# Altium schematic symbol library Dronesch.SchLib: 28 symbols
Pins are listed as number, name and electrical type; pins without a type are passive.

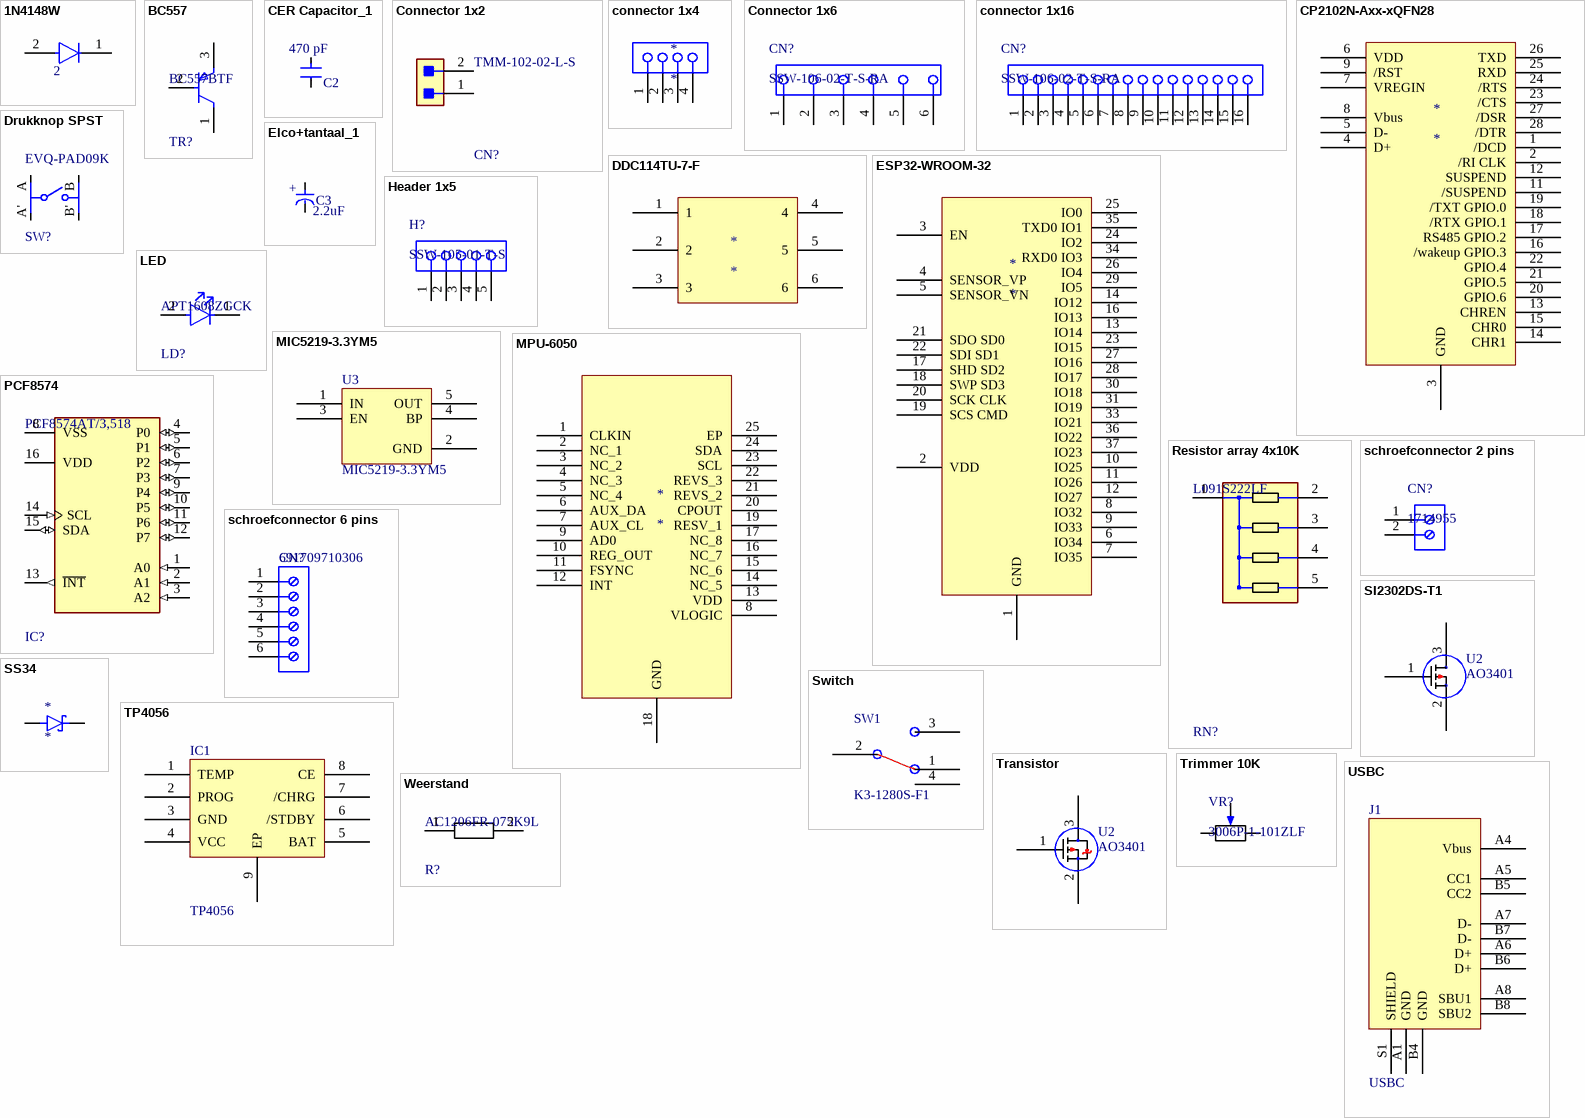
[diagram p0: symbols 1N4148W to Weerstand]

## 1N4148W
designator 2, comment APT1608ZGCK  (value not drawn)
Diode; Forward Voltage: 3.3V; Lens Transparency: Clear; Dominant Wavelength: 525nm; Forward Current: 20mA; Lens Color: Colorless; Viewing Angle: 120°; Luminous Intensity: 350mcd; Illumination Color: Green; Color: Green; Max Operating Temperature: 85°C; Case/Package: 0603; Mount: Surface Mount; Min Operating Temperature: -40°C; Case Code (Metric): 1608; Test Current: 20mA; Packaging: Tape and Reel; Width: 0.8mm; Package Quantity: 1; Height: 0.75mm; Length: 1.6mm; Lead Free: Lead Free; Case Code (Imperial): 0603
footprint SOD3715X135N
pins: 1, 2

## BC557
designator TR?, comment BC557BTF
BC557BTF Small Signal Bipolar Transistor, 0.1A I(C), 45V V(BR)CEO, 1-Element, PNP, Silicon, TO-92; Manufacturer Lifecycle Status: ACTIVE; NexarPartId: 84408945; Max Power Dissipation: 500mW; Frequency: 150MHz; hFE Min: 110; Number of Elements: 1; Current Rating: -100mA; Collector Emitter Saturation Voltage: -250mV; Max Collector Current: 100mA; Emitter Base Voltage (VEBO): -5V; Voltage Rating (DC): -45V; Element Configuration: Single; Max Frequency: 10MHz; Collector Base Voltage (VCBO): -50V; Collector Emitter Voltage (VCEO): 45V; Contact Plating: Tin; Min Operating Temperature: -65°C; RoHS: Compliant; Max Operating Temperature: 150°C; Weight: 240mg; Power Dissipation: 500mW; Lifecycle Status: Production; Case/Package: TO-92; Collector Emitter Breakdown Voltage: 45V; Length: 5.2mm; Schedule B: 8541210080, 8541210080|8541210080|8541210080|8541210080|8541210080; Lead Free: Lead Free; Polarity: PNP; REACH SVHC: No SVHC; Mount: Through Hole; Max Breakdown Voltage: 45V; Transition Frequency: 150MHz; Height: 5.33mm; Number of Pins: 3; Gain Bandwidth Product: 150MHz; Width: 4.19mm
pins: 1 C, 2 B, 3 E

## CER Capacitor_1
designator C2, comment 470 pF
Voltage Rating (DC): 35V; Tolerance: 20%; Capacitance: 10uF; Dielectric: X6S; Width: 0.049inch; Thickness: 0.057inch; Voltage Rating: 35V; Min Operating Temperature: -55°C; Case Code (Imperial): 0805; Mount: Surface Mount; Packaging: Tape and Reel; Case/Package: 0805; Max Operating Temperature: 105°C; Length: 0.079inch; Case Code (Metric): 2012
footprint res0805ph (Chip Resistor, 2-Leads, Body 2.00x1.25mm, IPC Medium Density)
pins: 1, 2

## Connector 1x2
designator CN?, comment TMM-102-02-L-S
CONN HEADER VERT 2POS 2MM; Max Voltage Rating (AC): 500V; Number of Contacts: 2; Max Current Rating: 3.9A; Gender: Male; Number of Rows: 1; REACH SVHC: No SVHC; Contact Material: Bronze; Length: 4mm; Depth: 1.97mm; Pitch: 2mm; Radiation Hardening: No; Contact Plating: Gold; Min Operating Temperature: -55°C; RoHS Compliant: Yes; Packaging: Bulk; Orientation: Straight; Housing Material: Polymer; Housing Color: Black; Max Operating Temperature: 125°C; Termination: Solder; Lead Free: Lead Free
footprint JST_B2B-XH-A_(LF)(SN)
pins: 1, 2

## connector 1x4
designator *
pins: 1, 2, 3, 4

## Connector 1x6
designator CN?, comment SSW-106-02-T-S-RA
SQ Post Socket, Through-hole, Right Angle, -55 to 105 degC, 2.54mm Pitch, 6-Pin, Female, RoHS; Manufacturer: Samtec; DatasheetVersion: F-214; PackageReference: SSW-106-02-X-S-RA; ComponentLink1URL: http://www.samtec.com; Temperature Range: -55 to 105 degC; Orientation: Right Angle; ComponentLink2Description: Datasheet; PartNumber: SSW-106-02-T-S-RA; PackageVersion: CA, 6/1987; Pitch: 2.54 mm; Mounting Technology: Through-hole; PackageDescription: Assembly, Socket Strip .016 X .031 Tail; ComponentLink2URL: http://www.samtec.com/documents/webfiles/pdf/SSW_TH.PDF; RoHS: True; ComponentLink3URL: http://www.samtec.com/documents/webfiles/cpdf/SSW-1XX-XX-XXX-X-XX-XXX-XX-MKT.pdf; ComponentLink1Description: Manufacturer URL; ComponentLink3Description: Package Specification
footprint 61300611121
pins: 1, 2, 3, 4, 5, 6

## connector 1x16
designator CN?, comment SSW-106-02-T-S-RA
SQ Post Socket, Through-hole, Right Angle, -55 to 105 degC, 2.54mm Pitch, 6-Pin, Female, RoHS; Manufacturer: Samtec; DatasheetVersion: F-214; PackageReference: SSW-106-02-X-S-RA; ComponentLink1URL: http://www.samtec.com; Temperature Range: -55 to 105 degC; Orientation: Right Angle; ComponentLink2Description: Datasheet; PartNumber: SSW-106-02-T-S-RA; PackageVersion: CA, 6/1987; Pitch: 2.54 mm; Mounting Technology: Through-hole; PackageDescription: Assembly, Socket Strip .016 X .031 Tail; ComponentLink2URL: http://www.samtec.com/documents/webfiles/pdf/SSW_TH.PDF; RoHS: True; ComponentLink3URL: http://www.samtec.com/documents/webfiles/cpdf/SSW-1XX-XX-XXX-X-XX-XXX-XX-MKT.pdf; ComponentLink1Description: Manufacturer URL; ComponentLink3Description: Package Specification
pins: 1, 2, 3, 4, 5, 6, 7, 8, 9, 10, 11, 12, 13, 14, 15, 16

## CP2102N-Axx-xQFN28
designator *
footprint QFN50P500X500X80-29N
pins: 1 /DCD, 2 /RI CLK, 3 GND, 4 D+, 5 D-, 6 VDD, 7 VREGIN, 8 Vbus, 9 /RST, 11 /SUSPEND, 12 SUSPEND, 13 CHREN, 14 CHR1, 15 CHR0, 16 /wakeup GPIO.3, 17 RS485 GPIO.2, 18 /RTX GPIO.1, 19 /TXT GPIO.0, 20 GPIO.6, 21 GPIO.5, 22 GPIO.4, 23 /CTS, 24 /RTS, 25 RXD, 26 TXD, 27 /DSR, 28 /DTR

## DDC114TU-7-F
designator *
footprint SOT65P210X110-6N
pins: 1, 2, 3, 4, 5, 6

## Drukknop SPST
designator SW?, comment EVQ-PAD09K
EVQ-PAD09K Switch Tactile N.O. SPST Round Button PC Pins 0.02A 15VDC 1.3N Thru-Hole Bulk; NexarPartId: 40031361; Life (Cycles): 100kcycles; Actuator Length: 6.1mm; Switch Function: Off-Mom; Illumination Type: Illuminated, Non-Illuminated; Number of Positions: 2; Voltage Rating (DC): 15V; Max Current Rating: 20mA; Contact Resistance: 50mΩ; Switch Travel: 250µm; Min Operating Temperature: -20°C; Packaging: Bulk; Orientation: Straight; Mechanical Life: 100kcycles; Radiation Hardening: No; RoHS: Compliant; Mount: Through Hole; Throw Configuration: SPST; Height: 9.5mm; Depth: 6.5mm; Contact Plating: Silver; Lead Free: Lead Free; Length: 6mm; Electrical Life: 100kcycles; Color: Black; Max Voltage Rating (DC): 15V; Max Operating Temperature: 70°C; Termination: PC Pin; Operating Force: 1.3N; Width: 6mm; Contact Current Rating: 20mA; REACH SVHC: Unknown; Current Rating: 20mA
pins: A, A', B, B'

## Elco+tantaal_1
designator C3, comment 2.2uF
47uF 6.3V  ±20% 1.1Ω 2917  SMD Tantalum Capacitor; ESR (Equivalent Series Resistance): 1.1R; Dissipation Factor: 6%; Polarity: Polar; Voltage Rating: 6.3V; Width: 0.169inch; Tolerance: 20%; Series: TAJ; Case/Package: 2917; Max Operating Temperature: 125°C; Depth: 4.3mm; Voltage Rating (DC): 6.3V; Package Quantity: 500; Lead Free: Lead Free; Mount: Surface Mount; Length: 0.287inch; Min Operating Temperature: -55°C; Features: General Purpose; Packaging: Tape and Reel; Capacitance: 47uF; Height - Seated (Max): 0.122inch; RoHS Compliant: Yes
footprint res0805ph (Chip Resistor, 2-Leads, Body 2.00x1.25mm, IPC Medium Density)
pins: 1 C, 2 A
text: +

## ESP32-WROOM-32
designator *
footprint ESP32-WROOM-32D
pins: 1 GND, 2 VDD, 3 EN, 4 SENSOR_VP, 5 SENSOR_VN, 6 IO34, 7 IO35, 8 IO32, 9 IO33, 10 IO25, 11 IO26, 12 IO27, 13 IO14, 14 IO12, 16 IO13, 17 SHD SD2, 18 SWP SD3, 19 SCS CMD, 20 SCK CLK, 21 SDO SD0, 22 SDI SD1, 23 IO15, 24 IO2, 25 IO0, 26 IO4, 27 IO16, 28 IO17, 29 IO5, 30 IO18, 31 IO19, 33 IO21, 34 RXD0 IO3, 35 TXD0 IO1, 36 IO22, 37 IO23

## Header 1x5
designator H?, comment SSW-105-01-T-S
SQ Post Socket, Through-hole, Vertical, -55 to 105 degC, 2.54mm Pitch, 5-Pin, Female, RoHS; Manufacturer: Samtec; Pitch: 2.54 mm; Orientation: Vertical; ComponentLink1Description: Manufacturer URL; ComponentLink1URL: http://www.samtec.com; RoHS: True; PackageDescription: Assembly, Socket Strip .016 X .031 Tail; PackageReference: SSW-105-01-X-S; ComponentLink3URL: http://www.samtec.com/documents/webfiles/cpdf/SSW-1XX-XX-XXX-X-XX-XXX-XX-MKT.pdf; PartNumber: SSW-105-01-T-S; Temperature Range: -55 to 105 degC; Mounting Technology: Through-hole; PackageVersion: CA, 6/1987; ComponentLink2URL: http://www.samtec.com/documents/webfiles/pdf/SSW_TH.PDF; DatasheetVersion: F-214; ComponentLink2Description: Datasheet; ComponentLink3Description: Package Specification
pins: 1, 2, 3, 4, 5

## LED
designator LD?, comment APT1608ZGCK
LED GREEN CLEAR CHIP SMD; Forward Voltage: 3.3V; Dominant Wavelength: 525nm; Forward Current: 20mA; Lens Color: Colorless; Viewing Angle: 120°; Luminous Intensity: 350mcd; Lens Transparency: Clear; Color: Green; Max Operating Temperature: 85°C; Case/Package: 0603; Mount: Surface Mount; Min Operating Temperature: -40°C; Case Code (Metric): 1608; Test Current: 20mA; Packaging: Tape and Reel; Width: 0.8mm; Package Quantity: 1; Height: 0.75mm; Length: 1.6mm; Illumination Color: Green; Lead Free: Lead Free; Case Code (Imperial): 0603
footprint LED_APT1608QBC_D
pins: 1 C, 2 A

## MIC5219-3.3YM5
designator U3
footprint FP-SOT23-5LD-PL-1-IPC_C
pins: 1 IN, 2 GND, 3 EN, 4 BP, 5 OUT

## MPU-6050
designator *
footprint IS-QFN-24_V (QFN, 24-Leads, Body 4x4mm, Pitch 0.5mm, Thermal Pad 2.7x2.6mm)
pins: 1 CLKIN, 2 NC_1, 3 NC_2, 4 NC_3, 5 NC_4, 6 AUX_DA, 7 AUX_CL, 8 VLOGIC, 9 AD0, 10 REG_OUT, 11 FSYNC, 12 INT, 13 VDD, 14 NC_5, 15 NC_6, 16 NC_7, 17 NC_8, 18 GND, 19 RESV_1, 20 CPOUT, 21 REVS_2, 22 REVS_3, 23 SCL, 24 SDA, 25 EP

## PCF8574
designator IC?, comment PCF8574AT/3,518
IC I/O EXPANDER I2C 8B 16SOIC; Manufacturer: NXP Semiconductors; Interface: I2C,SMBus; Frequency: 100kHz; Nominal Supply Current: 40uA; Max Supply Voltage: 6V; Number Of I/Os: 8; Max Junction Temp: +125°C; Min Supply Voltage: 2.5V; Standoff Height: 0.1mm; RoHS: TRUE; Category: IC; Temperature: -40°C to +85°C; Device Class L3: I/O Expanders; ComponentLink2Description: Datasheet; ComponentLink2URL: https://www.nxp.com/docs/en/data-sheet/PCF8574_PCF8574A.pdf; Digikey Description: IC I/O EXPANDER I2C 8B 16SOIC; Ipc Land Pattern Name: SOIC127P1032X265-16; Mouser Description: PCF8574 Series 2.5 to 6V Remote 8-bit I/O Expander for I2C-bus -SOIC-16; Footprint Url: https://www.nxp.com/docs/en/package-information/SOT162-1.pdf; Lead Free: Yes; Device Class L2: Interface ICs; Ambient Temperature Range Low: -40°C; Temperature Range High: +85°C; Automotive: No; Manufacturer Part Number: PCF8574AT/3,518; Ambient Temperature Range High: +85°C; Height: 2.65mm; Package: SOT162-1; Temperature Range Low: -40°C; Octopart: https://octopart.com/pcf8574at%2F3%2C518-nxp+semiconductors-11541925; Device Class L1: Integrated Circuits (ICs)
pins: 1 A0 (in), 2 A1 (in), 3 A2 (in), 4 P0 (io), 5 P1 (io), 6 P2 (io), 7 P3 (io), 8 VSS (power), 9 P4 (io), 10 P5 (io), 11 P6 (io), 12 P7 (io), 13 ~{INT} (out), 14 SCL (in), 15 SDA (io), 16 VDD (power)

## Resistor array 4x10K
designator RN?, comment L091S222LF
L091S222LF L09 Series 2.2 kOhm 8 Leads Bussed 2% Thick Film Low Profile Resistor Network; NexarPartId: 41902791; Temperature Coefficient: 100ppm/°C; Resistance: 2.2kΩ; Voltage Rating: 100V; Number of Resistors: 8; Power Rating: 125mW; Number of Elements: 4; Min Operating Temperature: -55°C; Length: 22.86mm; Lead Free: Lead Free; Schedule B: 8533210075, 8533210075|8533210075|8533210075|8533210075|8533210075; RoHS: Compliant; Packaging: Bulk; Military Standard: Not; Radiation Hardening: No; Max Operating Temperature: 125°C; Number of Pins: 9; Circuit Type: Bussed; Tolerance: 2%; Height: 5.08mm; Composition: Thick Film; Depth: 2.5mm; Termination: DIP, Pin; Working Voltage: 100V; Terminal Pitch: 2.54mm; Number of Terminals: 9; Case/Package: SIP
pins: 1, 2, 3, 4, 5

## schroefconnector 2 pins
designator CN?, comment 1714955
PC Terminal Block, Pitch 6.35 mm, 1 x 2 Position, Height 21.5 mm, Tail Lenght 5.1 mm, RoHS, Bulk; Manufacturer: Phoenix Contact; Package Description: PC Terminal Block, Pitch 6.35 mm, 1 x 2 Position, Height 21.5 mm, Tail Lenght 5.1 mm; Datasheet URL: http://media.digikey.com/pdf/Data%20Sheets/Phoenix%20Contact%20PDFs/1714955.pdf; Package Reference: 1714955; Manufacturer URL: http://www.phoenixcontact.com/; Datasheet Version: 02/2010; Mounting Technology: ThroughHole
pins: 1, 2

## schroefconnector 6 pins
designator CN?, comment 691709710306
NexarPartId: 34171773; Wire/Cable Gauge: 30AWG; Pitch: 5mm; Wire Gauge (Min): 14AWG; Plating: Steel; Current: 6A; Number of Levels: 1; Voltage Rating: 300V; Number of Contacts: 6; Connector Type: Screw; Flammability Rating: UL94 V-0; Housing Material: Nylon; REACH SVHC: Unknown; Lead Pitch: 5mm; Contact Plating: Tin; Mount: Surface Mount; Height: 10.2mm; Number of Rows: 1; Min Operating Temperature: -40°C; RoHS: Compliant; Color: Black; Contact Material: Nickel; Wire Gauge (Max): 30AWG; Number of Pins: 6; Length: 30mm; Number of Positions: 6; Packaging: Tape & Reel (TR); Number of Positions Per Level: 6; Max Operating Temperature: 130°C; Termination: Screw; Current Rating: 6A; Voltage: 300V
pins: 1, 2, 3, 4, 5, 6

## SI2302DS-T1
designator U2, comment AO3401
footprint NXP-SOT23_N (SOT23, 3-Leads, Body 3x1.4mm, Pitch 0.95mm, IPC Medium Density)
pins: 1, 2, 3

## SS34
designator *
footprint DIOM7959X265N
pins: A, C K

## Switch
designator SW1, comment K3-1280S-F1
footprint SW-SMD_K3-1280S-K1
pins: 1 23, 2 21, 3 22, 4 24

## TP4056
designator IC1
footprint SOP127P600X175-9N
pins: 1 TEMP, 2 PROG, 3 GND, 4 VCC, 5 BAT, 6 /STDBY, 7 /CHRG, 8 CE, 9 EP

## Transistor
designator U2, comment AO3401
footprint SOT23-3
pins: 1, 2, 3

## Trimmer 10K
designator VR?, comment 3006P-1-101ZLF
Trimming Potentiometer, 100 Ohm +/- 10%, -55 to 125 degC, 3-Pin 19.05 x 4.83 x 6.6 mm THD, RoHS; Manufacturer: Bourns; Resistance Tolerance: +/- 10%; Resistance (Ohm): 100; Number of Turns: 15; Rotational Life: 200 Cycles; RoHS: TRUE; Mounting Technology: Through Hole; ComponentLink3URL: http://www.bourns.com/data/global/pdfs/3006.pdf; PackageReference: 3006P-3; Temperature Range: -55 to 125 degC; ComponentLink3Description: Package Specification; DatasheetVersion: Apr-14; ComponentLink1Description: Manufacturer URL; PackageDescription: 3-Pin THD, Body 19.05 x 4.83 mm, Height 6.6 mm; PartNumber: 3006P-1-101ZLF; ComponentLink2URL: http://www.bourns.com/data/global/pdfs/3006.pdf; ComponentLink2Description: Datasheet; PackageVersion: Apr-14; ComponentLink1URL: http://www.bourns.com/
pins: 1 CCW, 2 WIPER, 3 CW

## USBC
designator J1
footprint SHENZHEN-CHUANGQIN-TECHNOLOGY_CQ-USB-C16PSMT01
pins: A1 GND, A4 Vbus, A5 CC1, A6 D+, A7 D-, A8 SBU1, B4 GND, B5 CC2, B6 D+, B7 D-, B8 SBU2, S1 SHIELD

## Weerstand
designator R?, comment AC1206FR-075K9L
RES SMD 5.9K OHM 1% 1/4W 1206; Manufacturer: Yageo; Resistance: 5.9KΩ; Power Rating: 0.25W; Voltage Rating: 200V; Automotive Grade: Grade 0; Value: 5.9KΩ; Tolerance: 0.01; Series: AC; Mouser Description: Thick Film Resistors - SMD 1/4W 5.9ohm 1% AEC-Q200; Lead Free: Yes; Octopart: https://octopart.com/ac1206fr-075k9l-yageo-30511161; Automotive: Yes; Temperature Range High: +155°C; ComponentLink2Description: Datasheet; Ipc Land Pattern Name: RESC310160X55; Temperature Range Low: -55°C; Digikey Description: RES SMD 5.9K OHM 1% 1/4W 1206; Manufacturer Part Number: AC1206FR-075K9L; Device Class L3: Chip SMD Resistors; Device Class L2: Resistors; Category: Res; RoHS: TRUE; Height: 0.65mm; Package: AC1206; Temperature: -55°C to +155°C; ComponentLink2URL: http://www.yageo.com/NewPortal/yageodocoutput?fileName=/pdf/R-Chip/PYu-AC_51_RoHS_L_6.pdf; Device Class L1: Passive Components; Footprint Url: http://www.yageo.com/exep/pages/download/literatures/PYu-R_Mount_10.pdf; Composition: Thick Film
footprint RESC2013X50X30NL20T20 (Chip Resistor, 2-Leads, Body 2.00x1.25mm, IPC Medium Density)
footprint res0805ph (Chip Resistor, 2-Leads, Body 2.00x1.25mm, IPC Medium Density)
pins: 1, 2